# EAGLE library part MOTOR_DRIVER (library project2)
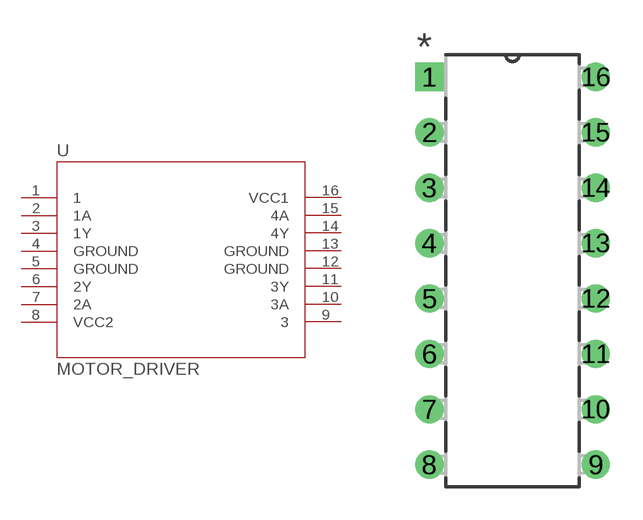
[diagram p1: symbol with the pads of MOTOR_DRIVER; footprint MOTOR_DRIVER]

Designator prefix U

## MOTOR_DRIVER (DATASHEET_URL: http://www.ti.com/lit/gpn/L293D; DESCRIPTION: Quadruple Half-H Drivers; FAMILY_NAME: PERIPHERAL DRIVER AND ACTUATOR; GENERIC_PART_NUMBER: L293D; INDUSTRY_STD_PKG_TYPE: PDIP; MANUFACTURER: Texas Instruments; PACKAGE_DESIGNATOR: NE; PIN_COUNT: 16)  [MOTOR_DRIVER]
1  1  pas
2  1A  in
3  1Y  out
4  GROUND  pas
5  GROUND  pas
6  2Y  out
7  2A  in
8  VCC2  pwr
9  3  pas
10  3A  in
11  3Y  out
12  GROUND  pas
13  GROUND  pas
14  4Y  out
15  4A  in
16  VCC1  pwr

## Footprint MOTOR_DRIVER (pad centres in mm)
drill 0.787 pad 1.295 square: 1 -7.62,17.78
drill 0.787 pad 1.295: 2 -7.62,15.24; 3 -7.62,12.7; 4 -7.62,10.16; 5 -7.62,7.62; 6 -7.62,5.08; 7 -7.62,2.54; 8 -7.62,0; 9 0,0; 10 0,2.54; 11 0,5.08; 12 0,7.62; 13 0,10.16; 14 0,12.7; 15 0,15.24; 16 0,17.78